# EAGLE library part LT1302 (library ERIC)
Micropower High Output Current Step-Up Adjustable and Fixed 5V DC/DC Converters
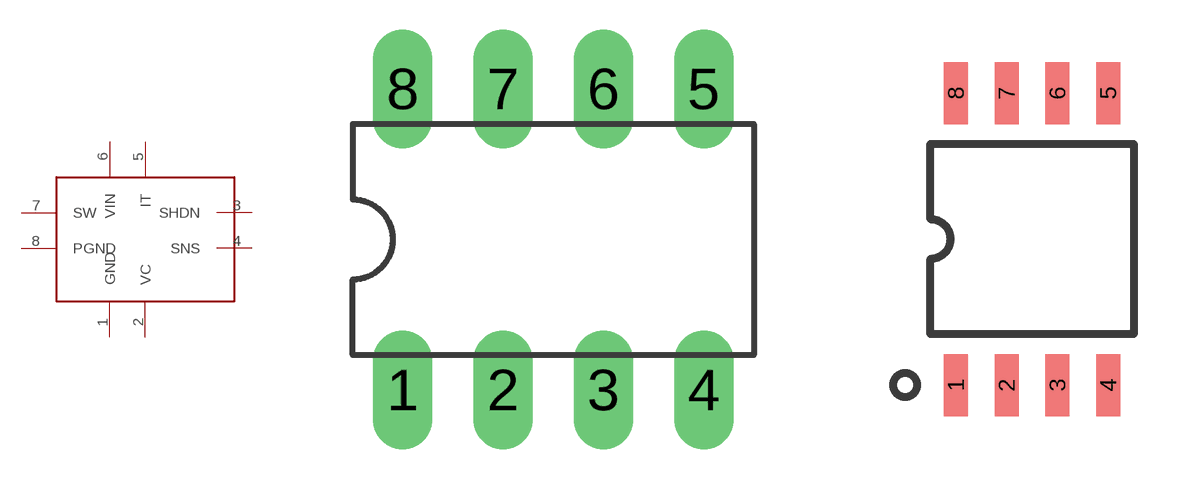
[diagram p12: symbol with the pads of DIP8; footprints DIP8, SOIC_8_W]

Designator prefix -

## LT1302DIP  [DIP8]
1  GND  pwr
2  VC  pwr
3  SHDN
4  SNS
5  IT
6  VIN  pwr
7  SW
8  PGND  pwr

## LT1302SOIC  [SOIC_8_W]
Pads as for DIP8

## Footprint DIP8 (pad centres in mm)
drill 0.813 pad 1.5 long: 1 -3.81,-3.81; 2 -1.27,-3.81; 3 1.27,-3.81; 4 3.81,-3.81; 5 3.81,3.81; 6 1.27,3.81; 7 -1.27,3.81; 8 -3.81,3.81

## Footprint SOIC_8_W (pad centres in mm)
smd 0.6 x 1.55: 1 -1.905,-3.65; 2 -0.635,-3.65; 3 0.635,-3.65; 4 1.905,-3.65; 5 1.905,3.65; 6 0.635,3.65; 7 -0.635,3.65; 8 -1.905,3.65